# EAGLE library part IC_USBLC6-2 (library dp_devices)
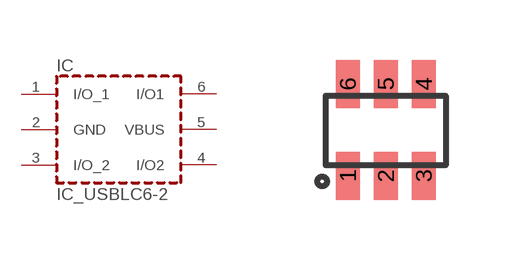
[diagram p84: symbol with the pads of SOT-23-6L; footprint SOT-23-6L]

Designator prefix IC

## IC_USBLC6-2  [SOT-23-6L]
1  I/O_1
2  GND
3  I/O_2
4  I/O2
5  VBUS
6  I/O1

## Footprint SOT-23-6L (pad centres in mm)
smd 0.6 x 1.2: 1 -0.95,-2.3; 2 0,-2.3; 3 0.95,-2.3; 4 0.95,0; 5 0,0; 6 -0.95,0